# Altium integrated library 470nF.IntLib: 1 symbol
Pins are listed as number, name and electrical type; pins without a type are passive.

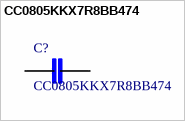
[diagram p0: symbol CC0805KKX7R8BB474]

## CC0805KKX7R8BB474
designator C?
0805 0.47 uF 25 V Â±10 % Tolerance X7R SMT Multilayer Ceramic Capacitor; MF: Yageo; Package: None; Availability: Good; MP: CC0805KKX7R8BB474; Price: 0.03 USD; Value: *
footprint CAPC2012X70
pins: 1, 2